# Altium schematic symbol library EC20A1820407.SchLib: 1 symbol
Pins are listed as number, name and electrical type; pins without a type are passive.

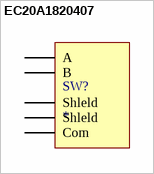
[diagram p0: symbol EC20A1820407]

## EC20A1820407
designator SW?
pins: A, B, C Com, MH1 Shleld, MH2 Shleld